# EAGLE library part MC34063ADRJR (library MC34063ADRJR)
Texas Instruments MC34063ADRJR, Inverting, Step-Down/Up Buck Boost Switching Regulator, 1.5A, Adjustable Source: Datasheet <http://www.ti.com/lit/gpn/mc34063a>
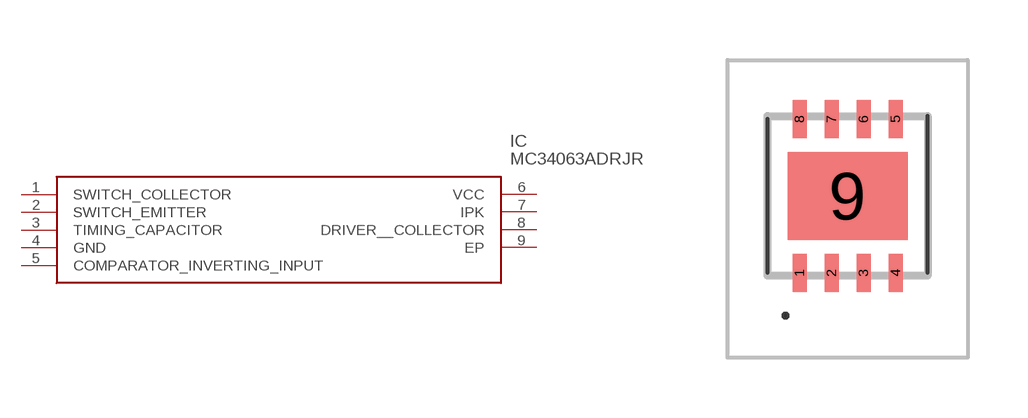
[diagram p0: symbol with the pads of MC34063ADRJR; footprint MC34063ADRJR]

Designator prefix IC

## MC34063ADRJR (Arrow_Part_Number: MC34063ADRJR; Arrow_Price-Stock: https://www.arrow.com/en/products/mc34063adrjr/texas-instruments?region=nac; Description: Texas Instruments MC34063ADRJR, Inverting, Step-Down/Up Buck Boost Switching Regulator, 1.5A, Adjustable; Height: 0.8mm; Manufacturer_Name: Texas Instruments; Manufacturer_Part_Number: MC34063ADRJR; Mouser_Part_Number: 595-MC34063ADRJR; Mouser_Price-Stock: https://www.mouser.co.uk/ProductDetail/Texas-Instruments/MC34063ADRJR?qs=qRemG2J%252Bg%2FV%252BInxBdda5Jw%3D%3D)  [MC34063ADRJR]
1  SWITCH_COLLECTOR
2  SWITCH_EMITTER
3  TIMING_CAPACITOR
4  GND
5  COMPARATOR_INVERTING_INPUT
6  VCC
7  IPK
8  DRIVER__COLLECTOR
9  EP

## Footprint MC34063ADRJR (pad centres in mm)
MC34063ADRJR-2
smd 0.35 x 0.95: 1 -1.2,-1.925; 2 -0.4,-1.925; 3 0.4,-1.925; 4 1.2,-1.925; 5 1.2,1.925; 6 0.4,1.925; 7 -0.4,1.925; 8 -1.2,1.925
smd 3 x 2.2: 9 0,0